# Altium schematic symbol library RC0603JR-0727KL.SchLib: 1 symbol
Pins are listed as number, name and electrical type; pins without a type are passive.

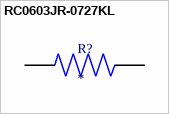
[diagram p0: symbol RC0603JR-0727KL]

## RC0603JR-0727KL
designator R?
RES SMD 27K OHM 5% 1/10W 0603; MP: RC0603JR-0727KL; Package: None; Price: None; Value: *; Availability: Unavailable
pins: 1, 2